# EAGLE library part HDR-1X8 (library con-hdrs40)
HEADER CONNECTOR
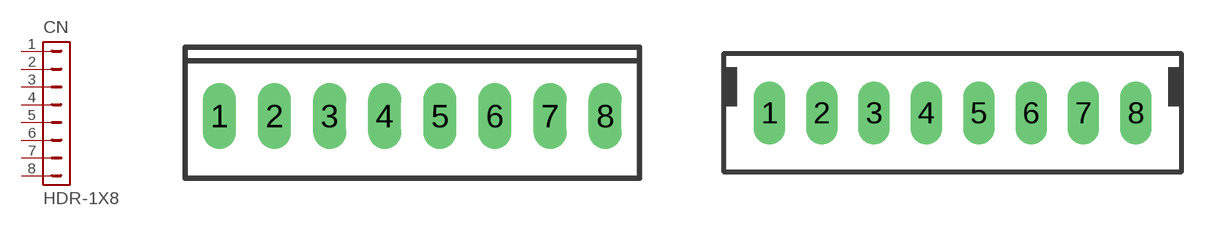
[diagram p2: symbol with the pads of MTA-100-8V; footprints MTA-100-8V, MTE-100-8V]

Designator prefix CN

## HDR-1X8-MTA-100  [MTA-100-8V]
1  1  pas
2  2  pas
3  3  pas
4  4  pas
5  5  pas
6  6  pas
7  7  pas
8  8  pas

## HDR-1X8-MTE-100  [MTE-100-8V]
Pads as for MTA-100-8V

## HDR-1X8-MTE-100-L  [MTE-100-8VL]
Pads as for MTA-100-8V

## HDR-1X8-SIP-100  [SIP-100-8V]
Pads as for MTA-100-8V

## HDR-1X8-15-91-?  [15-91-08]
Pads as for MTA-100-8V

## HDR-1X8-70543-?  [70543-08]
Pads as for MTA-100-8V

## HDR-1X8-70553-?  [70553-08]
Pads as for MTA-100-8V

## HDR-1X8-FH21-8  [FH21-8]
Pads as for MTA-100-8V

## Footprint MTA-100-8V (pad centres in mm)
AMP MTA Vertical .100" 8 pin
drill 1.016 long: 1 -8.89,0; 2 -6.35,0; 3 -3.81,0; 4 -1.27,0; 5 1.27,0; 6 3.81,0; 7 6.35,0; 8 8.89,0

## Footprint MTE-100-8V (pad centres in mm)
AMP MTE Vertical .100" 8 pin
drill 1.016 long: 1 -8.89,0; 2 -6.35,0; 3 -3.81,0; 4 -1.27,0; 5 1.27,0; 6 3.81,0; 7 6.35,0; 8 8.89,0

## Footprint MTE-100-8VL (pad centres in mm)
AMP MTE Vertical .100" 8 pin w/latch
drill 1.016 long: 1 -8.89,0; 2 -6.35,0; 3 -3.81,0; 4 -1.27,0; 5 1.27,0; 6 3.81,0; 7 6.35,0; 8 8.89,0

## Footprint SIP-100-8V (pad centres in mm)
SIP Header Vertical 100" 8 pin
drill 1.016 long: 1 -8.89,0; 2 -6.35,0; 3 -3.81,0; 4 -1.27,0; 5 1.27,0; 6 3.81,0; 7 6.35,0; 8 8.89,0

## Footprint 15-91-08 (pad centres in mm)
Molex C-Grid SL Connector right angle SMD, 8 pin
smd 1.651 x 5.334: 1 -8.89,-10.795; 2 -6.35,-10.795; 3 -3.81,-10.795; 4 -1.27,-10.795; 5 1.27,-10.795; 6 3.81,-10.795; 7 6.35,-10.795; 8 8.89,-10.795
hole 3.404 at -10.287,0.838
hole 3.404 at 10.287,0.838

## Footprint 70543-08 (pad centres in mm)
Molex C-Grid SL Connector vertical, 8 pin
drill 1.016 long: 1 -8.89,0; 2 -6.35,0; 3 -3.81,0; 4 -1.27,0; 5 1.27,0; 6 3.81,0; 7 6.35,0; 8 8.89,0

## Footprint 70553-08 (pad centres in mm)
Molex C-Grid SL Connector right angle, 8 pin
drill 1.092 long: 1 -8.89,-7.62; 2 -6.35,-7.62; 3 -3.81,-7.62; 4 -1.27,-7.62; 5 1.27,-7.62; 6 3.81,-7.62; 7 6.35,-7.62; 8 8.89,-7.62

## Footprint FH21-8 (pad centres in mm)
Hirose FH21 1 MM Flex Connector right angle, 8 pin,
drill 0.813 square: 1 -3.5,-1
drill 0.813 round: 2 -2.5,1; 3 -1.5,-1; 4 -0.5,1; 5 0.5,-1; 6 1.5,1; 7 2.5,-1; 8 3.5,1